# Altium schematic symbol library Transistor_FET.SchLib: 598 symbols (part 2 of 6)
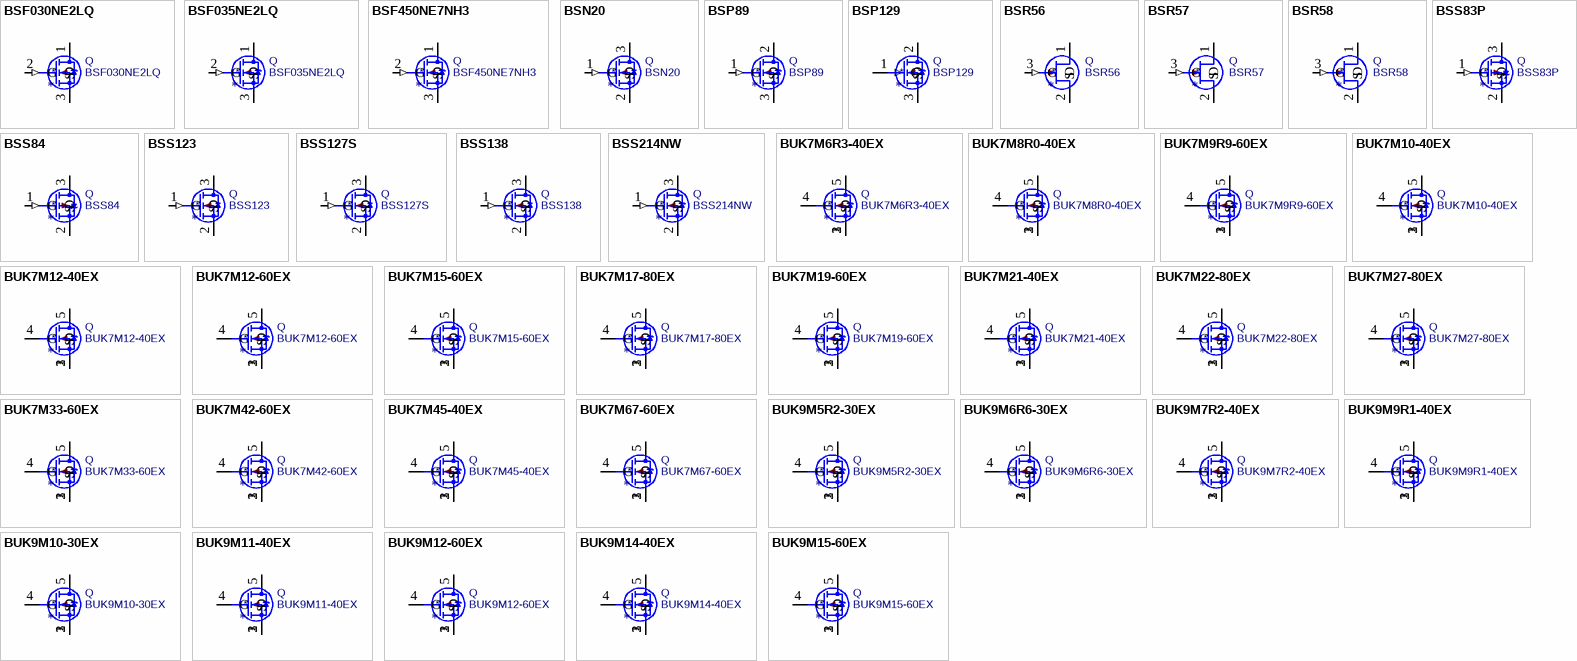
[diagram p17: symbols BSF030NE2LQ to BUK9M15-60EX]

## BUK9M10-30EX
designator *  value BUK9M10-30EX  Reference: Q
54A Id, 30V Vds, N-Channel TrenchMOS MOSFET, 7.8mOhm Ron, 12.2nC Qqd, -55 to 175 °C, LFPAK33; ki_keywords: Power MOSFET N-MOS; ki_fp_filters: LFPAK33*; Footprint: Package_TO_SOT_SMD:LFPAK33; Datasheet: https://assets.nexperia.com/documents/data-sheet/BUK9M10-30E.pdf; Description_: 54A Id, 30V Vds, N-Channel TrenchMOS MOSFET, 7.8mOhm Ron, 12.2nC Qqd, -55 to 175 °C, LFPAK33
pins: 1 S, 2 S, 3 S, 4 G, 5 D

## BUK9M11-40EX
designator *  value BUK9M11-40EX  Reference: Q
53A Id, 40V Vds, N-Channel TrenchMOS MOSFET, 9mOhm Ron, 13.4nC Qqd, -55 to 175 °C, LFPAK33; ki_keywords: Power MOSFET N-MOS; ki_fp_filters: LFPAK33*; Footprint: Package_TO_SOT_SMD:LFPAK33; Datasheet: https://assets.nexperia.com/documents/data-sheet/BUK9M11-40E.pdf; Description_: 53A Id, 40V Vds, N-Channel TrenchMOS MOSFET, 9mOhm Ron, 13.4nC Qqd, -55 to 175 °C, LFPAK33
pins: 1 S, 2 S, 3 S, 4 G, 5 D

## BUK9M12-60EX
designator *  value BUK9M12-60EX  Reference: Q
54A Id, 60V Vds, N-Channel TrenchMOS MOSFET, 11mOhm Ron, - Qqd, -55 to 175 °C, LFPAK33; ki_keywords: Power MOSFET N-MOS; ki_fp_filters: LFPAK33*; Footprint: Package_TO_SOT_SMD:LFPAK33; Datasheet: https://assets.nexperia.com/documents/data-sheet/BUK9M12-60E.pdf; Description_: 54A Id, 60V Vds, N-Channel TrenchMOS MOSFET, 11mOhm Ron, - Qqd, -55 to 175 °C, LFPAK33
pins: 1 S, 2 S, 3 S, 4 G, 5 D

## BUK9M14-40EX
designator *  value BUK9M14-40EX  Reference: Q
44A Id, 40V Vds, N-Channel TrenchMOS MOSFET, 11mOhm Ron, 11.3nC Qqd, -55 to 175 °C, LFPAK33; ki_keywords: Power MOSFET N-MOS; ki_fp_filters: LFPAK33*; Footprint: Package_TO_SOT_SMD:LFPAK33; Datasheet: https://assets.nexperia.com/documents/data-sheet/BUK9M14-40E.pdf; Description_: 44A Id, 40V Vds, N-Channel TrenchMOS MOSFET, 11mOhm Ron, 11.3nC Qqd, -55 to 175 °C, LFPAK33
pins: 1 S, 2 S, 3 S, 4 G, 5 D

## BUK9M15-60EX
designator *  value BUK9M15-60EX  Reference: Q
47A Id, 60V Vds, N-Channel TrenchMOS MOSFET, 13mOhm Ron, 17nC Qqd, -55 to 175 °C, LFPAK33; ki_keywords: Power MOSFET N-MOS; ki_fp_filters: LFPAK33*; Footprint: Package_TO_SOT_SMD:LFPAK33; Datasheet: https://assets.nexperia.com/documents/data-sheet/BUK9M15-60E.pdf; Description_: 47A Id, 60V Vds, N-Channel TrenchMOS MOSFET, 13mOhm Ron, 17nC Qqd, -55 to 175 °C, LFPAK33
pins: 1 S, 2 S, 3 S, 4 G, 5 D

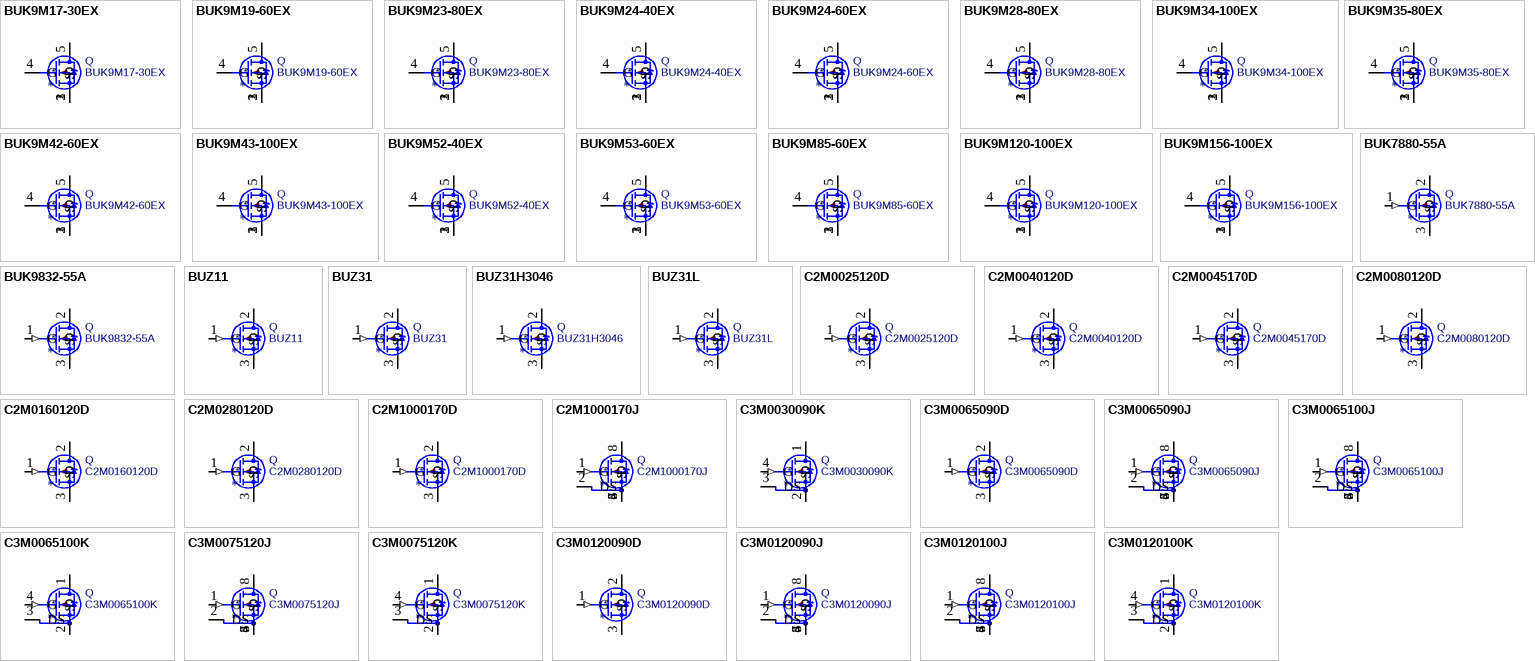
[diagram p3: symbols BUK9M17-30EX to C3M0120100K]

## BUK9M17-30EX
designator *  value BUK9M17-30EX  Reference: Q
37A Id, 30V Vds, N-Channel TrenchMOS MOSFET, 14mOhm Ron, 8nC Qqd, -55 to 175 °C, LFPAK33; ki_keywords: Power MOSFET N-MOS; ki_fp_filters: LFPAK33*; Footprint: Package_TO_SOT_SMD:LFPAK33; Datasheet: https://assets.nexperia.com/documents/data-sheet/BUK9M17-30E.pdf; Description_: 37A Id, 30V Vds, N-Channel TrenchMOS MOSFET, 14mOhm Ron, 8nC Qqd, -55 to 175 °C, LFPAK33
pins: 1 S, 2 S, 3 S, 4 G, 5 D

## BUK9M19-60EX
designator *  value BUK9M19-60EX  Reference: Q
38A Id, 60V Vds, N-Channel TrenchMOS MOSFET, 17mOhm Ron, 13.8nC Qqd, -55 to 175 °C, LFPAK33; ki_keywords: Power MOSFET N-MOS; ki_fp_filters: LFPAK33*; Footprint: Package_TO_SOT_SMD:LFPAK33; Datasheet: https://assets.nexperia.com/documents/data-sheet/BUK9M19-60E.pdf; Description_: 38A Id, 60V Vds, N-Channel TrenchMOS MOSFET, 17mOhm Ron, 13.8nC Qqd, -55 to 175 °C, LFPAK33
pins: 1 S, 2 S, 3 S, 4 G, 5 D

## BUK9M23-80EX
designator *  value BUK9M23-80EX  Reference: Q
37A Id, 80V Vds, N-Channel TrenchMOS MOSFET, 20mOhm Ron, 20nC Qqd, -55 to 175 °C, LFPAK33; ki_keywords: Power MOSFET N-MOS; ki_fp_filters: LFPAK33*; Footprint: Package_TO_SOT_SMD:LFPAK33; Datasheet: https://assets.nexperia.com/documents/data-sheet/BUK9M23-80E.pdf; Description_: 37A Id, 80V Vds, N-Channel TrenchMOS MOSFET, 20mOhm Ron, 20nC Qqd, -55 to 175 °C, LFPAK33
pins: 1 S, 2 S, 3 S, 4 G, 5 D

## BUK9M24-40EX
designator *  value BUK9M24-40EX  Reference: Q
30A Id, 40V Vds, N-Channel TrenchMOS MOSFET, 20mOhm Ron, 7.7nC Qqd, -55 to 175 °C, LFPAK33; ki_keywords: Power MOSFET N-MOS; ki_fp_filters: LFPAK33*; Footprint: Package_TO_SOT_SMD:LFPAK33; Datasheet: https://assets.nexperia.com/documents/data-sheet/BUK9M24-40E.pdf; Description_: 30A Id, 40V Vds, N-Channel TrenchMOS MOSFET, 20mOhm Ron, 7.7nC Qqd, -55 to 175 °C, LFPAK33
pins: 1 S, 2 S, 3 S, 4 G, 5 D

## BUK9M24-60EX
designator *  value BUK9M24-60EX  Reference: Q
32A Id, 60V Vds, N-Channel TrenchMOS MOSFET, 21mOhm Ron, 12.4nC Qqd, -55 to 175 °C, LFPAK33; ki_keywords: Power MOSFET N-MOS; ki_fp_filters: LFPAK33*; Footprint: Package_TO_SOT_SMD:LFPAK33; Datasheet: https://assets.nexperia.com/documents/data-sheet/BUK9M24-60E.pdf; Description_: 32A Id, 60V Vds, N-Channel TrenchMOS MOSFET, 21mOhm Ron, 12.4nC Qqd, -55 to 175 °C, LFPAK33
pins: 1 S, 2 S, 3 S, 4 G, 5 D

## BUK9M28-80EX
designator *  value BUK9M28-80EX  Reference: Q
33A Id, 80V Vds, N-Channel TrenchMOS MOSFET, 25mOhm Ron, 16.7nC Qqd, -55 to 175 °C, LFPAK33; ki_keywords: Power MOSFET N-MOS; ki_fp_filters: LFPAK33*; Footprint: Package_TO_SOT_SMD:LFPAK33; Datasheet: https://assets.nexperia.com/documents/data-sheet/BUK9M28-80E.pdf; Description_: 33A Id, 80V Vds, N-Channel TrenchMOS MOSFET, 25mOhm Ron, 16.7nC Qqd, -55 to 175 °C, LFPAK33
pins: 1 S, 2 S, 3 S, 4 G, 5 D

## BUK9M34-100EX
designator *  value BUK9M34-100EX  Reference: Q
29A Id, 100V Vds, N-Channel TrenchMOS MOSFET, 34mOhm Ron, 24.7nC Qqd, -55 to 175 °C, LFPAK33; ki_keywords: Power MOSFET N-MOS; ki_fp_filters: LFPAK33*; Footprint: Package_TO_SOT_SMD:LFPAK33; Datasheet: https://assets.nexperia.com/documents/data-sheet/BUK9M34-100E.pdf; Description_: 29A Id, 100V Vds, N-Channel TrenchMOS MOSFET, 34mOhm Ron, 24.7nC Qqd, -55 to 175 °C, LFPAK33
pins: 1 S, 2 S, 3 S, 4 G, 5 D

## BUK9M35-80EX
designator *  value BUK9M35-80EX  Reference: Q
26A Id, 80V Vds, N-Channel TrenchMOS MOSFET, 31mOhm Ron, 13.5nC Qqd, -55 to 175 °C, LFPAK33; ki_keywords: Power MOSFET N-MOS; ki_fp_filters: LFPAK33*; Footprint: Package_TO_SOT_SMD:LFPAK33; Datasheet: https://assets.nexperia.com/documents/data-sheet/BUK9M35-80E.pdf; Description_: 26A Id, 80V Vds, N-Channel TrenchMOS MOSFET, 31mOhm Ron, 13.5nC Qqd, -55 to 175 °C, LFPAK33
pins: 1 S, 2 S, 3 S, 4 G, 5 D

## BUK9M42-60EX
designator *  value BUK9M42-60EX  Reference: Q
22A Id, 60V Vds, N-Channel TrenchMOS MOSFET, 37mOhm Ron, 8.3nC Qqd, -55 to 175 °C, LFPAK33; ki_keywords: Power MOSFET N-MOS; ki_fp_filters: LFPAK33*; Footprint: Package_TO_SOT_SMD:LFPAK33; Datasheet: https://assets.nexperia.com/documents/data-sheet/BUK9M42-60E.pdf; Description_: 22A Id, 60V Vds, N-Channel TrenchMOS MOSFET, 37mOhm Ron, 8.3nC Qqd, -55 to 175 °C, LFPAK33
pins: 1 S, 2 S, 3 S, 4 G, 5 D

## BUK9M43-100EX
designator *  value BUK9M43-100EX  Reference: Q
25A Id, 100V Vds, N-Channel TrenchMOS MOSFET, 43mOhm Ron, 20.2nC Qqd, -55 to 175 °C, LFPAK33; ki_keywords: Power MOSFET N-MOS; ki_fp_filters: LFPAK33*; Footprint: Package_TO_SOT_SMD:LFPAK33; Datasheet: https://assets.nexperia.com/documents/data-sheet/BUK9M43-100E.pdf; Description_: 25A Id, 100V Vds, N-Channel TrenchMOS MOSFET, 43mOhm Ron, 20.2nC Qqd, -55 to 175 °C, LFPAK33
pins: 1 S, 2 S, 3 S, 4 G, 5 D

## BUK9M52-40EX
designator *  value BUK9M52-40EX  Reference: Q
17.6A Id, 40V Vds, N-Channel TrenchMOS MOSFET, 40mOhm Ron, 4.5nC Qqd, -55 to 175 °C, LFPAK33; ki_keywords: Power MOSFET N-MOS; ki_fp_filters: LFPAK33*; Footprint: Package_TO_SOT_SMD:LFPAK33; Datasheet: https://assets.nexperia.com/documents/data-sheet/BUK9M52-40E.pdf; Description_: 17.6A Id, 40V Vds, N-Channel TrenchMOS MOSFET, 40mOhm Ron, 4.5nC Qqd, -55 to 175 °C, LFPAK33
pins: 1 S, 2 S, 3 S, 4 G, 5 D

## BUK9M53-60EX
designator *  value BUK9M53-60EX  Reference: Q
17A Id, 60V Vds, N-Channel TrenchMOS MOSFET, 46mOhm Ron, 6nC Qqd, -55 to 175 °C, LFPAK33; ki_keywords: Power MOSFET N-MOS; ki_fp_filters: LFPAK33*; Footprint: Package_TO_SOT_SMD:LFPAK33; Datasheet: https://assets.nexperia.com/documents/data-sheet/BUK9M53-60E.pdf; Description_: 17A Id, 60V Vds, N-Channel TrenchMOS MOSFET, 46mOhm Ron, 6nC Qqd, -55 to 175 °C, LFPAK33
pins: 1 S, 2 S, 3 S, 4 G, 5 D

## BUK9M85-60EX
designator *  value BUK9M85-60EX  Reference: Q
12.8A Id, 60V Vds, N-Channel TrenchMOS MOSFET, 73mOhm Ron, 4.4nC Qqd, -55 to 175 °C, LFPAK33; ki_keywords: Power MOSFET N-MOS; ki_fp_filters: LFPAK33*; Footprint: Package_TO_SOT_SMD:LFPAK33; Datasheet: https://assets.nexperia.com/documents/data-sheet/BUK9M85-60E.pdf; Description_: 12.8A Id, 60V Vds, N-Channel TrenchMOS MOSFET, 73mOhm Ron, 4.4nC Qqd, -55 to 175 °C, LFPAK33
pins: 1 S, 2 S, 3 S, 4 G, 5 D

## BUK9M120-100EX
designator *  value BUK9M120-100EX  Reference: Q
11.5A Id, 100V Vds, N-Channel TrenchMOS MOSFET, 119mOhm Ron, 8.8nC Qqd, -55 to 175 °C, LFPAK33; ki_keywords: Power MOSFET N-MOS; ki_fp_filters: LFPAK33*; Footprint: Package_TO_SOT_SMD:LFPAK33; Datasheet: https://assets.nexperia.com/documents/data-sheet/BUK9M120-100E.pdf; Description_: 11.5A Id, 100V Vds, N-Channel TrenchMOS MOSFET, 119mOhm Ron, 8.8nC Qqd, -55 to 175 °C, LFPAK33
pins: 1 S, 2 S, 3 S, 4 G, 5 D

## BUK9M156-100EX
designator *  value BUK9M156-100EX  Reference: Q
9.3A Id, 100V Vds, N-Channel TrenchMOS MOSFET, 150mOhm Ron, 7.4nC Qqd, -55 to 175 °C, LFPAK33; ki_keywords: Power MOSFET N-MOS; ki_fp_filters: LFPAK33*; Footprint: Package_TO_SOT_SMD:LFPAK33; Datasheet: https://assets.nexperia.com/documents/data-sheet/BUK9M156-100E.pdf; Description_: 9.3A Id, 100V Vds, N-Channel TrenchMOS MOSFET, 150mOhm Ron, 7.4nC Qqd, -55 to 175 °C, LFPAK33
pins: 1 S, 2 S, 3 S, 4 G, 5 D

## BUK7880-55A
designator *  value BUK7880-55A  Reference: Q
7A Id, 55V Vds, N-Channel Enhancement Mode MOSFET, SOT-223; ki_keywords: n-channel n channel mosfet enhancement mode; ki_fp_filters: SOT?223*; Footprint: Package_TO_SOT_SMD:SOT-223-3_TabPin2; Datasheet: https://assets.nexperia.com/documents/data-sheet/BUK7880-55A.pdf; Description_: 7A Id, 55V Vds, N-Channel Enhancement Mode MOSFET, SOT-223
pins: 1 G (in), 2 D, 3 S

## BUK9832-55A
designator *  value BUK9832-55A  Reference: Q
12A Id, 55V Vds, RdsOn 25mOhm, N-Channel Enhancement Mode MOSFET, SOT-223; ki_keywords: n-channel n channel mosfet enhancement mode; ki_fp_filters: SOT?223*; Footprint: Package_TO_SOT_SMD:SOT-223-3_TabPin2; Datasheet: https://assets.nexperia.com/documents/data-sheet/BUK9832-55A.pdf; Description_: 12A Id, 55V Vds, RdsOn 25mOhm, N-Channel Enhancement Mode MOSFET, SOT-223
pins: 1 G (in), 2 D, 3 S

## BUZ11
designator *  value BUZ11  Reference: Q
30A Id, 50V Vds, N-Channel Power MOSFET, TO-220; ki_fp_filters: TO?220*; Footprint: Package_TO_SOT_THT:TO-220-3_Vertical; Datasheet: https://media.digikey.com/pdf/Data%20Sheets/Fairchild%20PDFs/BUZ11.pdf; Description_: 30A Id, 50V Vds, N-Channel Power MOSFET, TO-220; ki_keywords: N-Channel Power MOSFET
pins: 1 G (in), 2 D, 3 S

## BUZ31
designator *  value BUZ31  Reference: Q
14.5A Id, 200V Vds, SIPMOS Power Transistor, N-Channel MOSFET, 0.2 ohms Rds, normal level (Vgs(th) = 2.1 .. 3.0 .. 4.0V), TO-220; ki_keywords: Obsolete avalanche-rated Infineon-BUZ31H-halogen-free Siemens-C67078-S.1304-A2; ki_fp_filters: TO?220*; Footprint: Package_TO_SOT_THT:TO-220-3_Vertical; Datasheet: https://www.mouser.com/ds/2/196/Buz31%20H_%20Rev%202.5-57290.pdf; Description_: 14.5A Id, 200V Vds, SIPMOS Power Transistor, N-Channel MOSFET, 0.2 ohms Rds, normal level (Vgs(th) = 2.1 .. 3.0 .. 4.0V), TO-220
pins: 1 G (in), 2 D, 3 S

## BUZ31H3046
designator *  value BUZ31H3046  Reference: Q
14.5A Id, 200V Vds, SIPMOS Power Transistor, N-Channel MOSFET, 0.2 ohms Rds, normal level (Vgs(th) = 2.1 .. 3.0 .. 4.0V), TO-262; ki_keywords: Obsolete Infineon avalanche-rated halogen-free; ki_fp_filters: TO?262*; Footprint: Package_TO_SOT_THT:TO-262-3_Vertical; Datasheet: https://www.infineon.com/dgdl/Infineon-BUZ31H3046-DS-v02_00-en.pdf?fileId=db3a30433b47825b013b852143eb396e; Description_: 14.5A Id, 200V Vds, SIPMOS Power Transistor, N-Channel MOSFET, 0.2 ohms Rds, normal level (Vgs(th) = 2.1 .. 3.0 .. 4.0V), TO-262
pins: 1 G (in), 2 D, 3 S

## BUZ31L
designator *  value BUZ31L  Reference: Q
13.5A Id, 200V Vds, SIPMOS Power Transistor, N-Channel MOSFET, 0.2 ohms Rds, logic level (Vgs(th) = 1.2 .. 1.6 .. 2.0V), TO-220; ki_keywords: Obsolete avalanche-rated Infineon-BUZ31LH-halogen-free Siemens-C67078-S1322-A2; ki_fp_filters: TO?220*; Footprint: Package_TO_SOT_THT:TO-220-3_Vertical; Datasheet: https://www.mouser.com/datasheet/2/196/Infineon-BUZ31LH-DS-v02_04-en-522762.pdf; Description_: 13.5A Id, 200V Vds, SIPMOS Power Transistor, N-Channel MOSFET, 0.2 ohms Rds, logic level (Vgs(th) = 1.2 .. 1.6 .. 2.0V), TO-220
pins: 1 G (in), 2 D, 3 S

## C2M0025120D
designator *  value C2M0025120D  Reference: Q
90A Id, 1200V Vds, 25mOhm, N-Channel SiC MOSFET, TO-247; ki_fp_filters: TO?247*; Footprint: Package_TO_SOT_THT:TO-247-3_Vertical; Datasheet: https://www.wolfspeed.com/media/downloads/161/C2M0025120D.pdf; Description_: 90A Id, 1200V Vds, 25mOhm, N-Channel SiC MOSFET, TO-247; ki_keywords: N-Channel SiC MOSFET
pins: 1 G (in), 2 D, 3 S

## C2M0040120D
designator *  value C2M0040120D  Reference: Q
60A Id, 1200V Vds, 40mOhm, N-Channel SiC MOSFET, TO-247; ki_fp_filters: TO?247*; Footprint: Package_TO_SOT_THT:TO-247-3_Vertical; Datasheet: https://www.wolfspeed.com/media/downloads/165/C2M0040120D.pdf; Description_: 60A Id, 1200V Vds, 40mOhm, N-Channel SiC MOSFET, TO-247; ki_keywords: N-Channel SiC MOSFET
pins: 1 G (in), 2 D, 3 S

## C2M0045170D
designator *  value C2M0045170D  Reference: Q
72A Id, 1700V Vds, 45mOhm, N-Channel SiC MOSFET, TO-247; ki_fp_filters: TO?247*; Footprint: Package_TO_SOT_THT:TO-247-3_Vertical; Datasheet: https://www.wolfspeed.com/media/downloads/960/C2M0045170D.000.pdf; Description_: 72A Id, 1700V Vds, 45mOhm, N-Channel SiC MOSFET, TO-247; ki_keywords: N-Channel SiC MOSFET
pins: 1 G (in), 2 D, 3 S

## C2M0080120D
designator *  value C2M0080120D  Reference: Q
36A Id, 1200V Vds, 80mOhm, N-Channel SiC MOSFET, TO-247; ki_fp_filters: TO?247*; Footprint: Package_TO_SOT_THT:TO-247-3_Vertical; Datasheet: https://www.wolfspeed.com/media/downloads/167/C2M0080120D.pdf; Description_: 36A Id, 1200V Vds, 80mOhm, N-Channel SiC MOSFET, TO-247; ki_keywords: N-Channel SiC MOSFET
pins: 1 G (in), 2 D, 3 S

## C2M0160120D
designator *  value C2M0160120D  Reference: Q
19A Id, 1200V Vds, 160mOhm, N-Channel SiC MOSFET, TO-247; ki_fp_filters: TO?247*; Footprint: Package_TO_SOT_THT:TO-247-3_Vertical; Datasheet: https://www.wolfspeed.com/media/downloads/169/C2M0160120D.pdf; Description_: 19A Id, 1200V Vds, 160mOhm, N-Channel SiC MOSFET, TO-247; ki_keywords: N-Channel SiC MOSFET
pins: 1 G (in), 2 D, 3 S

## C2M0280120D
designator *  value C2M0280120D  Reference: Q
10A Id, 1200V Vds, 280mOhm, N-Channel SiC MOSFET, TO-247; ki_fp_filters: TO?247*; Footprint: Package_TO_SOT_THT:TO-247-3_Vertical; Datasheet: https://www.wolfspeed.com/media/downloads/171/C2M0280120D.pdf; Description_: 10A Id, 1200V Vds, 280mOhm, N-Channel SiC MOSFET, TO-247; ki_keywords: N-Channel SiC MOSFET
pins: 1 G (in), 2 D, 3 S

## C2M1000170D
designator *  value C2M1000170D  Reference: Q
5A Id, 1700V Vds, 1000mOhm, N-Channel SiC MOSFET, TO-247; ki_fp_filters: TO?247*; Footprint: Package_TO_SOT_THT:TO-247-3_Vertical; Datasheet: https://www.wolfspeed.com/media/downloads/173/C2M1000170D.pdf; Description_: 5A Id, 1700V Vds, 1000mOhm, N-Channel SiC MOSFET, TO-247; ki_keywords: N-Channel SiC MOSFET
pins: 1 G (in), 2 D, 3 S

## C2M1000170J
designator *  value C2M1000170J  Reference: Q
5.3A Id, 1700V Vds, 1000mOhm, N-Channel SiC MOSFET, TO-263-7; ki_fp_filters: TO?263*TabPin8*; Footprint: Package_TO_SOT_SMD:TO-263-7_TabPin8; Datasheet: https://www.wolfspeed.com/media/downloads/820/C2M1000170J.pdf; Description_: 5.3A Id, 1700V Vds, 1000mOhm, N-Channel SiC MOSFET, TO-263-7; ki_keywords: N-Channel SiC MOSFET
pins: 1 G (in), 2 DS, 3 S, 4 S, 5 S, 6 S, 7 S, 8 D

## C3M0030090K
designator *  value C3M0030090K  Reference: Q
63A Id, 900V Vds, 30mOhm, N-Channel SiC MOSFET, TO-247-4; ki_fp_filters: TO?247*; Footprint: Package_TO_SOT_THT:TO-247-4_Vertical; Datasheet: https://www.wolfspeed.com/media/downloads/1185/C3M0030090K.pdf; Description_: 63A Id, 900V Vds, 30mOhm, N-Channel SiC MOSFET, TO-247-4; ki_keywords: N-Channel SiC MOSFET
pins: 1 D, 2 S, 3 DS, 4 G (in)

## C3M0065090D
designator *  value C3M0065090D  Reference: Q
36A Id, 900V Vds, 65mOhm, N-Channel SiC MOSFET, TO-247; ki_fp_filters: TO?247*; Footprint: Package_TO_SOT_THT:TO-247-3_Vertical; Datasheet: https://www.wolfspeed.com/media/downloads/176/C3M0065090D.pdf; Description_: 36A Id, 900V Vds, 65mOhm, N-Channel SiC MOSFET, TO-247; ki_keywords: N-Channel SiC MOSFET
pins: 1 G (in), 2 D, 3 S

## C3M0065090J
designator *  value C3M0065090J  Reference: Q
35A Id, 900V Vds, 65mOhm, N-Channel SiC MOSFET, TO-263-7; ki_fp_filters: TO?263*TabPin8*; Footprint: Package_TO_SOT_SMD:TO-263-7_TabPin8; Datasheet: https://www.wolfspeed.com/media/downloads/145/C3M0065090J.pdf; Description_: 35A Id, 900V Vds, 65mOhm, N-Channel SiC MOSFET, TO-263-7; ki_keywords: N-Channel SiC MOSFET
pins: 1 G (in), 2 DS, 3 S, 4 S, 5 S, 6 S, 7 S, 8 D

## C3M0065100J
designator *  value C3M0065100J  Reference: Q
35A Id, 1000V Vds, 65mOhm, N-Channel SiC MOSFET, TO-263-7; ki_fp_filters: TO?263*TabPin8*; Footprint: Package_TO_SOT_SMD:TO-263-7_TabPin8; Datasheet: https://www.wolfspeed.com/media/downloads/958/C3M0065100J.pdf; Description_: 35A Id, 1000V Vds, 65mOhm, N-Channel SiC MOSFET, TO-263-7; ki_keywords: N-Channel SiC MOSFET
pins: 1 G (in), 2 DS, 3 S, 4 S, 5 S, 6 S, 7 S, 8 D

## C3M0065100K
designator *  value C3M0065100K  Reference: Q
35A Id, 1000V Vds, 65mOhm, N-Channel SiC MOSFET, TO-247-4; ki_fp_filters: TO?247*; Footprint: Package_TO_SOT_THT:TO-247-4_Vertical; Datasheet: https://www.wolfspeed.com/media/downloads/961/C3M0065100K.pdf; Description_: 35A Id, 1000V Vds, 65mOhm, N-Channel SiC MOSFET, TO-247-4; ki_keywords: N-Channel SiC MOSFET
pins: 1 D, 2 S, 3 DS, 4 G (in)

## C3M0075120J
designator *  value C3M0075120J  Reference: Q
30A Id, 1200V Vds, 75mOhm, N-Channel SiC MOSFET, TO-263-7; ki_fp_filters: TO?263*TabPin8*; Footprint: Package_TO_SOT_SMD:TO-263-7_TabPin8; Datasheet: https://www.wolfspeed.com/media/downloads/997/C3M0075120J.pdf; Description_: 30A Id, 1200V Vds, 75mOhm, N-Channel SiC MOSFET, TO-263-7; ki_keywords: N-Channel SiC MOSFET
pins: 1 G (in), 2 DS, 3 S, 4 S, 5 S, 6 S, 7 S, 8 D

## C3M0075120K
designator *  value C3M0075120K  Reference: Q
30A Id, 1200V Vds, 75mOhm, N-Channel SiC MOSFET, TO-247-4; ki_fp_filters: TO?247*; Footprint: Package_TO_SOT_THT:TO-247-4_Vertical; Datasheet: https://www.wolfspeed.com/media/downloads/959/c3m0075120k.pdf; Description_: 30A Id, 1200V Vds, 75mOhm, N-Channel SiC MOSFET, TO-247-4; ki_keywords: N-Channel SiC MOSFET
pins: 1 D, 2 S, 3 DS, 4 G (in)

## C3M0120090D
designator *  value C3M0120090D  Reference: Q
23A Id, 900V Vds, 120mOhm, N-Channel SiC MOSFET, TO-247; ki_fp_filters: TO?247*; Footprint: Package_TO_SOT_THT:TO-247-3_Vertical; Datasheet: https://www.wolfspeed.com/media/downloads/824/C3M0120090D.pdf; Description_: 23A Id, 900V Vds, 120mOhm, N-Channel SiC MOSFET, TO-247; ki_keywords: N-Channel SiC MOSFET
pins: 1 G (in), 2 D, 3 S

## C3M0120090J
designator *  value C3M0120090J  Reference: Q
22A Id, 900V Vds, 120mOhm, N-Channel SiC MOSFET, TO-263-7; ki_fp_filters: TO?263*TabPin8*; Footprint: Package_TO_SOT_SMD:TO-263-7_TabPin8; Datasheet: https://www.wolfspeed.com/media/downloads/834/C3M0120090J.pdf; Description_: 22A Id, 900V Vds, 120mOhm, N-Channel SiC MOSFET, TO-263-7; ki_keywords: N-Channel SiC MOSFET
pins: 1 G (in), 2 DS, 3 S, 4 S, 5 S, 6 S, 7 S, 8 D

## C3M0120100J
designator *  value C3M0120100J  Reference: Q
22A Id, 1000V Vds, 120mOhm, N-Channel SiC MOSFET, TO-263-7; ki_fp_filters: TO?263*TabPin8*; Footprint: Package_TO_SOT_SMD:TO-263-7_TabPin8; Datasheet: https://www.wolfspeed.com/media/downloads/957/C3M0120100J.pdf; Description_: 22A Id, 1000V Vds, 120mOhm, N-Channel SiC MOSFET, TO-263-7; ki_keywords: N-Channel SiC MOSFET
pins: 1 G (in), 2 DS, 3 S, 4 S, 5 S, 6 S, 7 S, 8 D

## C3M0120100K
designator *  value C3M0120100K  Reference: Q
22A Id, 1000V Vds, 120mOhm, N-Channel SiC MOSFET, TO-247-4; ki_fp_filters: TO?247*; Footprint: Package_TO_SOT_THT:TO-247-4_Vertical; Datasheet: https://www.wolfspeed.com/media/downloads/962/C3M0120100K.pdf; Description_: 22A Id, 1000V Vds, 120mOhm, N-Channel SiC MOSFET, TO-247-4; ki_keywords: N-Channel SiC MOSFET
pins: 1 D, 2 S, 3 DS, 4 G (in)

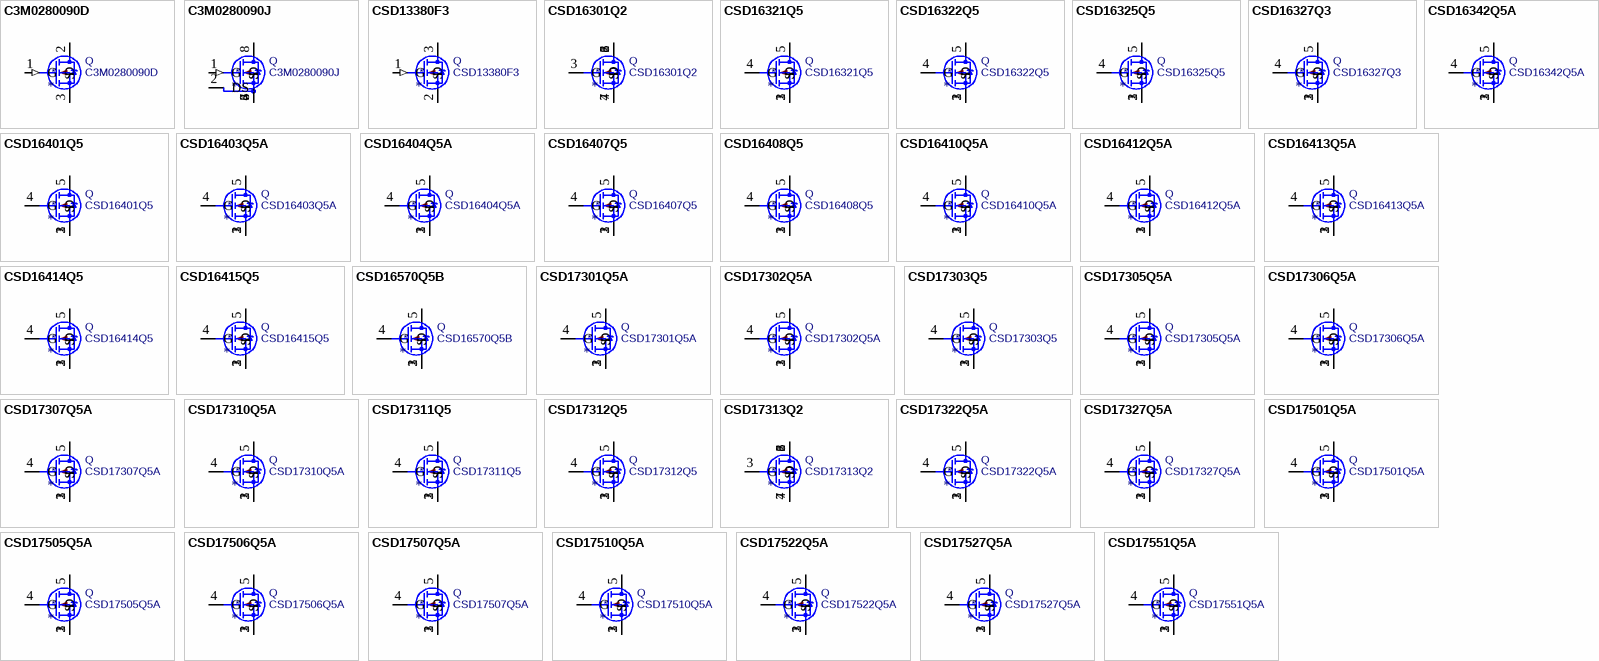
[diagram p4: symbols C3M0280090D to CSD17551Q5A]

## C3M0280090D
designator *  value C3M0280090D  Reference: Q
11.5A Id, 900V Vds, 280mOhm, N-Channel SiC MOSFET, TO-247; ki_fp_filters: TO?247*; Footprint: Package_TO_SOT_THT:TO-247-3_Vertical; Datasheet: https://www.wolfspeed.com/media/downloads/825/C3M0280090D.pdf; Description_: 11.5A Id, 900V Vds, 280mOhm, N-Channel SiC MOSFET, TO-247; ki_keywords: N-Channel SiC MOSFET
pins: 1 G (in), 2 D, 3 S

## C3M0280090J
designator *  value C3M0280090J  Reference: Q
11.5A Id, 900V Vds, 280mOhm, N-Channel SiC MOSFET, TO-263-7; ki_fp_filters: TO?263*TabPin8*; Footprint: Package_TO_SOT_SMD:TO-263-7_TabPin8; Datasheet: https://www.wolfspeed.com/media/downloads/835/C3M0280090J.pdf; Description_: 11.5A Id, 900V Vds, 280mOhm, N-Channel SiC MOSFET, TO-263-7; ki_keywords: N-Channel SiC MOSFET
pins: 1 G (in), 2 DS, 3 S, 4 S, 5 S, 6 S, 7 S, 8 D

## CSD13380F3
designator *  value CSD13380F3  Reference: Q
3.6A Id, 12V Vds, N-Channel MOSFET, 76mOhm Ron,max @ 4.5Vgs, 0.91nC Qg,typ @ 4.5Vgs, PicoStar 0.73x0.64mm max, 0.69x0.60mm nom; ki_keywords: Texas NMOS single; ki_fp_filters: *PicoStar*DFN?3*; Footprint: Package_DFN_QFN:Texas_PicoStar_DFN-3_0.69x0.60mm; Datasheet: https://www.ti.com/lit/ds/symlink/csd13380f3.pdf; Description_: 3.6A Id, 12V Vds, N-Channel MOSFET, 76mOhm Ron,max @ 4.5Vgs, 0.91nC Qg,typ @ 4.5Vgs, PicoStar 0.73x0.64mm max, 0.69x0.60mm nom
pins: 1 G (in), 2 S, 3 D

## CSD16301Q2
designator *  value CSD16301Q2  Reference: Q
5A Id, 25V Vds, NexFET N-Channel Power MOSFET, 19mOhm Ron, SON-6; ki_keywords: NexFET Power MOSFET N-MOS; ki_fp_filters: Texas*DQK*; Footprint: Package_SON:Texas_DQK; Datasheet: http://www.ti.com/lit/ds/symlink/csd16301q2.pdf; Description_: 5A Id, 25V Vds, NexFET N-Channel Power MOSFET, 19mOhm Ron, SON-6
pins: 1 D, 2 D, 3 G, 4 S, 5 D, 6 D, 7 S, 8 D

## CSD16321Q5
designator *  value CSD16321Q5  Reference: Q
100A Id, 25V Vds, NexFET N-Channel Power MOSFET, 2.6mOhm Ron, 14nC Qg(typ), SON8 5x6mm; ki_keywords: NexFET Power MOSFET N-MOS; ki_fp_filters: TDSON*; Footprint: Package_TO_SOT_SMD:TDSON-8-1; Datasheet: http://www.ti.com/lit/gpn/csd16321q5; Description_: 100A Id, 25V Vds, NexFET N-Channel Power MOSFET, 2.6mOhm Ron, 14nC Qg(typ), SON8 5x6mm
pins: 1 S, 2 S, 3 S, 4 G, 5 D

## CSD16322Q5
designator *  value CSD16322Q5  Reference: Q
100A Id, 25V Vds, NexFET N-Channel Power MOSFET, 5.8mOhm Ron, Qg (typ) 6.8nC, SON8 5x6mm; ki_keywords: NexFET Power MOSFET N-MOS; ki_fp_filters: TDSON*; Footprint: Package_TO_SOT_SMD:TDSON-8-1; Datasheet: http://www.ti.com/lit/gpn/csd16322q5; Description_: 100A Id, 25V Vds, NexFET N-Channel Power MOSFET, 5.8mOhm Ron, Qg (typ) 6.8nC, SON8 5x6mm
pins: 1 S, 2 S, 3 S, 4 G, 5 D

## CSD16325Q5
designator *  value CSD16325Q5  Reference: Q
100A Id, 25V Vds, NexFET N-Channel Power MOSFET, 2.2mOhm Ron, 18nC Qg(typ), SON8 5x6mm; ki_keywords: NexFET Power MOSFET N-MOS; ki_fp_filters: TDSON*; Footprint: Package_TO_SOT_SMD:TDSON-8-1; Datasheet: http://www.ti.com/lit/gpn/csd16325q5; Description_: 100A Id, 25V Vds, NexFET N-Channel Power MOSFET, 2.2mOhm Ron, 18nC Qg(typ), SON8 5x6mm
pins: 1 S, 2 S, 3 S, 4 G, 5 D

## CSD16327Q3
designator *  value CSD16327Q3  Reference: Q
60A Id, 25V Vds, NexFET N-Channel Power MOSFET, 3.4mOhm Ron, Qg Typ 6.2nC, VSON-8 3.3x3.3mm; ki_keywords: NexFET Power MOSFET N-MOS; ki_fp_filters: VSON*3.3x3.3mm*P0.65mm*NexFET*; Footprint: Package_SON:VSON-8_3.3x3.3mm_P0.65mm_NexFET; Datasheet: https://www.ti.com/lit/ds/symlink/csd16327q3.pdf; Description_: 60A Id, 25V Vds, NexFET N-Channel Power MOSFET, 3.4mOhm Ron, Qg Typ 6.2nC, VSON-8 3.3x3.3mm
pins: 1 S, 2 S, 3 S, 4 G, 5 D

## CSD16342Q5A
designator *  value CSD16342Q5A  Reference: Q
100A Id, 25V Vds, NexFET N-Channel Power MOSFET, 5.5mOhm Ron, Qg (typ) 6.5nC, SON8 5x6mm; ki_keywords: NexFET Power MOSFET N-MOS; ki_fp_filters: TDSON*; Footprint: Package_TO_SOT_SMD:TDSON-8-1; Datasheet: http://www.ti.com/lit/gpn/csd16342q5a; Description_: 100A Id, 25V Vds, NexFET N-Channel Power MOSFET, 5.5mOhm Ron, Qg (typ) 6.5nC, SON8 5x6mm
pins: 1 S, 2 S, 3 S, 4 G, 5 D

## CSD16401Q5
designator *  value CSD16401Q5  Reference: Q
100A Id, 25V Vds, NexFET N-Channel Power MOSFET, 1.6mOhm Ron, 21nC Qg(typ), SON8 5x6mm; ki_keywords: NexFET Power MOSFET N-MOS; ki_fp_filters: TDSON*; Footprint: Package_TO_SOT_SMD:TDSON-8-1; Datasheet: http://www.ti.com/lit/gpn/csd16401q5; Description_: 100A Id, 25V Vds, NexFET N-Channel Power MOSFET, 1.6mOhm Ron, 21nC Qg(typ), SON8 5x6mm
pins: 1 S, 2 S, 3 S, 4 G, 5 D

## CSD16403Q5A
designator *  value CSD16403Q5A  Reference: Q
100A Id, 25V Vds, NexFET N-Channel Power MOSFET, 2.8mOhm Ron, Qg (typ) 13.3nC, SON8 5x6mm; ki_keywords: NexFET Power MOSFET N-MOS; ki_fp_filters: TDSON*; Footprint: Package_TO_SOT_SMD:TDSON-8-1; Datasheet: http://www.ti.com/lit/gpn/csd16403q5a; Description_: 100A Id, 25V Vds, NexFET N-Channel Power MOSFET, 2.8mOhm Ron, Qg (typ) 13.3nC, SON8 5x6mm
pins: 1 S, 2 S, 3 S, 4 G, 5 D

## CSD16404Q5A
designator *  value CSD16404Q5A  Reference: Q
100A Id, 25V Vds, NexFET N-Channel Power MOSFET, 5.1mOhm Ron, Qg (typ) 6.5nC, SON8 5x6mm; ki_keywords: NexFET Power MOSFET N-MOS; ki_fp_filters: TDSON*; Footprint: Package_TO_SOT_SMD:TDSON-8-1; Datasheet: http://www.ti.com/lit/gpn/csd16404q5a; Description_: 100A Id, 25V Vds, NexFET N-Channel Power MOSFET, 5.1mOhm Ron, Qg (typ) 6.5nC, SON8 5x6mm
pins: 1 S, 2 S, 3 S, 4 G, 5 D

## CSD16407Q5
designator *  value CSD16407Q5  Reference: Q
100A Id, 25V Vds, NexFET N-Channel Power MOSFET, 2.4mOhm Ron, Qg (typ) 13.3nC, SON8 5x6mm; ki_keywords: NexFET Power MOSFET N-MOS; ki_fp_filters: TDSON*; Footprint: Package_TO_SOT_SMD:TDSON-8-1; Datasheet: http://www.ti.com/lit/gpn/csd16407q5; Description_: 100A Id, 25V Vds, NexFET N-Channel Power MOSFET, 2.4mOhm Ron, Qg (typ) 13.3nC, SON8 5x6mm
pins: 1 S, 2 S, 3 S, 4 G, 5 D

## CSD16408Q5
designator *  value CSD16408Q5  Reference: Q
100A Id, 25V Vds, NexFET N-Channel Power MOSFET, 4.5mOhm Ron, Qg (typ) 6.7nC, SON8 5x6mm; ki_keywords: NexFET Power MOSFET N-MOS; ki_fp_filters: TDSON*; Footprint: Package_TO_SOT_SMD:TDSON-8-1; Datasheet: http://www.ti.com/lit/gpn/csd16408q5; Description_: 100A Id, 25V Vds, NexFET N-Channel Power MOSFET, 4.5mOhm Ron, Qg (typ) 6.7nC, SON8 5x6mm
pins: 1 S, 2 S, 3 S, 4 G, 5 D

## CSD16410Q5A
designator *  value CSD16410Q5A  Reference: Q
100A Id, 25V Vds, NexFET N-Channel Power MOSFET, 8.5mOhm Ron, Qg (typ) 3.9nC, SON8 5x6mm; ki_keywords: NexFET Power MOSFET N-MOS; ki_fp_filters: TDSON*; Footprint: Package_TO_SOT_SMD:TDSON-8-1; Datasheet: http://www.ti.com/lit/gpn/csd16410q5a; Description_: 100A Id, 25V Vds, NexFET N-Channel Power MOSFET, 8.5mOhm Ron, Qg (typ) 3.9nC, SON8 5x6mm
pins: 1 S, 2 S, 3 S, 4 G, 5 D

## CSD16412Q5A
designator *  value CSD16412Q5A  Reference: Q
100A Id, 25V Vds, NexFET N-Channel Power MOSFET, 11mOhm Ron, Qg (typ) 2.9nC, SON8 5x6mm; ki_keywords: NexFET Power MOSFET N-MOS; ki_fp_filters: TDSON*; Footprint: Package_TO_SOT_SMD:TDSON-8-1; Datasheet: http://www.ti.com/lit/gpn/csd16412q5a; Description_: 100A Id, 25V Vds, NexFET N-Channel Power MOSFET, 11mOhm Ron, Qg (typ) 2.9nC, SON8 5x6mm
pins: 1 S, 2 S, 3 S, 4 G, 5 D

## CSD16413Q5A
designator *  value CSD16413Q5A  Reference: Q
100A Id, 25V Vds, NexFET N-Channel Power MOSFET, 3.9mOhm Ron, 9nC Qg(typ), SON8 5x6mm; ki_keywords: NexFET Power MOSFET N-MOS; ki_fp_filters: TDSON*; Footprint: Package_TO_SOT_SMD:TDSON-8-1; Datasheet: http://www.ti.com/lit/gpn/csd16413q5a; Description_: 100A Id, 25V Vds, NexFET N-Channel Power MOSFET, 3.9mOhm Ron, 9nC Qg(typ), SON8 5x6mm
pins: 1 S, 2 S, 3 S, 4 G, 5 D

## CSD16414Q5
designator *  value CSD16414Q5  Reference: Q
100A Id, 25V Vds, NexFET N-Channel Power MOSFET, 1.9mOhm Ron, Qg (typ) 16.6nC, SON8 5x6mm; ki_keywords: NexFET Power MOSFET N-MOS; ki_fp_filters: TDSON*; Footprint: Package_TO_SOT_SMD:TDSON-8-1; Datasheet: http://www.ti.com/lit/gpn/csd16414q5; Description_: 100A Id, 25V Vds, NexFET N-Channel Power MOSFET, 1.9mOhm Ron, Qg (typ) 16.6nC, SON8 5x6mm
pins: 1 S, 2 S, 3 S, 4 G, 5 D

## CSD16415Q5
designator *  value CSD16415Q5  Reference: Q
100A Id, 25V Vds, NexFET N-Channel Power MOSFET, 1.15mOhm Ron, 21nC Qg(typ), SON8 5x6mm; ki_keywords: NexFET Power MOSFET N-MOS; ki_fp_filters: TDSON*; Footprint: Package_TO_SOT_SMD:TDSON-8-1; Datasheet: http://www.ti.com/lit/gpn/csd16415q5; Description_: 100A Id, 25V Vds, NexFET N-Channel Power MOSFET, 1.15mOhm Ron, 21nC Qg(typ), SON8 5x6mm
pins: 1 S, 2 S, 3 S, 4 G, 5 D

## CSD16570Q5B
designator *  value CSD16570Q5B  Reference: Q
100A Id, 25V Vds, NexFET N-Channel Power MOSFET, 0.59mOhm Ron, 95nC Qg(typ), SON8 5x6mm; ki_keywords: NexFET Power MOSFET N-MOS; ki_fp_filters: TDSON*; Footprint: Package_TO_SOT_SMD:TDSON-8-1; Datasheet: http://www.ti.com/lit/gpn/csd16570q5b; Description_: 100A Id, 25V Vds, NexFET N-Channel Power MOSFET, 0.59mOhm Ron, 95nC Qg(typ), SON8 5x6mm
pins: 1 S, 2 S, 3 S, 4 G, 5 D

## CSD17301Q5A
designator *  value CSD17301Q5A  Reference: Q
100A Id, 30V Vds, NexFET N-Channel Power MOSFET, 3mOhm Ron, 19nC Qg(typ), SON8 5x6mm; ki_keywords: NexFET Power MOSFET N-MOS; ki_fp_filters: TDSON*; Footprint: Package_TO_SOT_SMD:TDSON-8-1; Datasheet: http://www.ti.com/lit/gpn/csd17301q5a; Description_: 100A Id, 30V Vds, NexFET N-Channel Power MOSFET, 3mOhm Ron, 19nC Qg(typ), SON8 5x6mm
pins: 1 S, 2 S, 3 S, 4 G, 5 D

## CSD17302Q5A
designator *  value CSD17302Q5A  Reference: Q
100A Id, 30V Vds, NexFET N-Channel Power MOSFET, 9mOhm Ron, Qg (typ) 5.4nC, SON8 5x6mm; ki_keywords: NexFET Power MOSFET N-MOS; ki_fp_filters: TDSON*; Footprint: Package_TO_SOT_SMD:TDSON-8-1; Datasheet: http://www.ti.com/lit/gpn/csd17302q5a; Description_: 100A Id, 30V Vds, NexFET N-Channel Power MOSFET, 9mOhm Ron, Qg (typ) 5.4nC, SON8 5x6mm
pins: 1 S, 2 S, 3 S, 4 G, 5 D

## CSD17303Q5
designator *  value CSD17303Q5  Reference: Q
100A Id, 30V Vds, NexFET N-Channel Power MOSFET, 2.6mOhm Ron, 18nC Qg(typ), SON8 5x6mm; ki_keywords: NexFET Power MOSFET N-MOS; ki_fp_filters: TDSON*; Footprint: Package_TO_SOT_SMD:TDSON-8-1; Datasheet: http://www.ti.com/lit/gpn/csd17303q5; Description_: 100A Id, 30V Vds, NexFET N-Channel Power MOSFET, 2.6mOhm Ron, 18nC Qg(typ), SON8 5x6mm
pins: 1 S, 2 S, 3 S, 4 G, 5 D

## CSD17305Q5A
designator *  value CSD17305Q5A  Reference: Q
100A Id, 30V Vds, NexFET N-Channel Power MOSFET, 2.8mOhm Ron, Qg (typ) 14.1nC, SON8 5x6mm; ki_keywords: NexFET Power MOSFET N-MOS; ki_fp_filters: TDSON*; Footprint: Package_TO_SOT_SMD:TDSON-8-1; Datasheet: http://www.ti.com/lit/gpn/csd17305q5a; Description_: 100A Id, 30V Vds, NexFET N-Channel Power MOSFET, 2.8mOhm Ron, Qg (typ) 14.1nC, SON8 5x6mm
pins: 1 S, 2 S, 3 S, 4 G, 5 D

## CSD17306Q5A
designator *  value CSD17306Q5A  Reference: Q
100A Id, 30V Vds, NexFET N-Channel Power MOSFET, 4.2mOhm Ron, Qg (typ) 11.8nC, SON8 5x6mm; ki_keywords: NexFET Power MOSFET N-MOS; ki_fp_filters: TDSON*; Footprint: Package_TO_SOT_SMD:TDSON-8-1; Datasheet: http://www.ti.com/lit/gpn/csd17306q5a; Description_: 100A Id, 30V Vds, NexFET N-Channel Power MOSFET, 4.2mOhm Ron, Qg (typ) 11.8nC, SON8 5x6mm
pins: 1 S, 2 S, 3 S, 4 G, 5 D

## CSD17307Q5A
designator *  value CSD17307Q5A  Reference: Q
100A Id, 30V Vds, NexFET N-Channel Power MOSFET, 12.1mOhm Ron, 4nC Qg(typ), SON8 5x6mm; ki_keywords: NexFET Power MOSFET N-MOS; ki_fp_filters: TDSON*; Footprint: Package_TO_SOT_SMD:TDSON-8-1; Datasheet: http://www.ti.com/lit/gpn/csd17307q5a; Description_: 100A Id, 30V Vds, NexFET N-Channel Power MOSFET, 12.1mOhm Ron, 4nC Qg(typ), SON8 5x6mm
pins: 1 S, 2 S, 3 S, 4 G, 5 D

## CSD17310Q5A
designator *  value CSD17310Q5A  Reference: Q
100A Id, 30V Vds, NexFET N-Channel Power MOSFET, 5.9mOhm Ron, Qg (typ) 8.9nC, SON8 5x6mm; ki_keywords: NexFET Power MOSFET N-MOS; ki_fp_filters: TDSON*; Footprint: Package_TO_SOT_SMD:TDSON-8-1; Datasheet: http://www.ti.com/lit/gpn/csd17310q5a; Description_: 100A Id, 30V Vds, NexFET N-Channel Power MOSFET, 5.9mOhm Ron, Qg (typ) 8.9nC, SON8 5x6mm
pins: 1 S, 2 S, 3 S, 4 G, 5 D

## CSD17311Q5
designator *  value CSD17311Q5  Reference: Q
100A Id, 30V Vds, NexFET N-Channel Power MOSFET, 2.3mOhm Ron, 24nC Qg(typ), SON8 5x6mm; ki_keywords: NexFET Power MOSFET N-MOS; ki_fp_filters: TDSON*; Footprint: Package_TO_SOT_SMD:TDSON-8-1; Datasheet: http://www.ti.com/lit/gpn/csd17311q5; Description_: 100A Id, 30V Vds, NexFET N-Channel Power MOSFET, 2.3mOhm Ron, 24nC Qg(typ), SON8 5x6mm
pins: 1 S, 2 S, 3 S, 4 G, 5 D

## CSD17312Q5
designator *  value CSD17312Q5  Reference: Q
100A Id, 30V Vds, NexFET N-Channel Power MOSFET, 1.7mOhm Ron, 28nC Qg(typ), SON8 5x6mm; ki_keywords: NexFET Power MOSFET N-MOS; ki_fp_filters: TDSON*; Footprint: Package_TO_SOT_SMD:TDSON-8-1; Datasheet: http://www.ti.com/lit/gpn/csd17312q5; Description_: 100A Id, 30V Vds, NexFET N-Channel Power MOSFET, 1.7mOhm Ron, 28nC Qg(typ), SON8 5x6mm
pins: 1 S, 2 S, 3 S, 4 G, 5 D

## CSD17313Q2
designator *  value CSD17313Q2  Reference: Q
5A Id, 30V Vds, NexFET N-Channel Power MOSFET, 24mOhm Ron, SON-6; ki_keywords: NexFET Power MOSFET N-MOS; ki_fp_filters: Texas*DQK*; Footprint: Package_SON:Texas_DQK; Datasheet: http://www.ti.com/lit/ds/symlink/csd17313q2.pdf; Description_: 5A Id, 30V Vds, NexFET N-Channel Power MOSFET, 24mOhm Ron, SON-6
pins: 1 D, 2 D, 3 G, 4 S, 5 D, 6 D, 7 S, 8 D

## CSD17322Q5A
designator *  value CSD17322Q5A  Reference: Q
100A Id, 30V Vds, NexFET N-Channel Power MOSFET, 12.4mOhm Ron, Qg (typ) 3.6nC, SON8 5x6mm; ki_keywords: NexFET Power MOSFET N-MOS; ki_fp_filters: TDSON*; Footprint: Package_TO_SOT_SMD:TDSON-8-1; Datasheet: http://www.ti.com/lit/gpn/csd17322q5a; Description_: 100A Id, 30V Vds, NexFET N-Channel Power MOSFET, 12.4mOhm Ron, Qg (typ) 3.6nC, SON8 5x6mm
pins: 1 S, 2 S, 3 S, 4 G, 5 D

## CSD17327Q5A
designator *  value CSD17327Q5A  Reference: Q
100A Id, 30V Vds, NexFET N-Channel Power MOSFET, 15.5mOhm Ron, Qg (typ) 2.8nC, SON8 5x6mm; ki_keywords: NexFET Power MOSFET N-MOS; ki_fp_filters: TDSON*; Footprint: Package_TO_SOT_SMD:TDSON-8-1; Datasheet: http://www.ti.com/lit/gpn/csd17327q5a; Description_: 100A Id, 30V Vds, NexFET N-Channel Power MOSFET, 15.5mOhm Ron, Qg (typ) 2.8nC, SON8 5x6mm
pins: 1 S, 2 S, 3 S, 4 G, 5 D

## CSD17501Q5A
designator *  value CSD17501Q5A  Reference: Q
100A Id, 30V Vds, NexFET N-Channel Power MOSFET, 2.9mOhm Ron, Qg (typ) 13.2nC, SON8 5x6mm; ki_keywords: NexFET Power MOSFET N-MOS; ki_fp_filters: TDSON*; Footprint: Package_TO_SOT_SMD:TDSON-8-1; Datasheet: http://www.ti.com/lit/gpn/csd17501q5a; Description_: 100A Id, 30V Vds, NexFET N-Channel Power MOSFET, 2.9mOhm Ron, Qg (typ) 13.2nC, SON8 5x6mm
pins: 1 S, 2 S, 3 S, 4 G, 5 D

## CSD17505Q5A
designator *  value CSD17505Q5A  Reference: Q
100A Id, 30V Vds, NexFET N-Channel Power MOSFET, 3.5mOhm Ron, 10nC Qg(typ), SON8 5x6mm; ki_keywords: NexFET Power MOSFET N-MOS; ki_fp_filters: TDSON*; Footprint: Package_TO_SOT_SMD:TDSON-8-1; Datasheet: http://www.ti.com/lit/gpn/csd17505q5a; Description_: 100A Id, 30V Vds, NexFET N-Channel Power MOSFET, 3.5mOhm Ron, 10nC Qg(typ), SON8 5x6mm
pins: 1 S, 2 S, 3 S, 4 G, 5 D

## CSD17506Q5A
designator *  value CSD17506Q5A  Reference: Q
100A Id, 30V Vds, NexFET N-Channel Power MOSFET, 4mOhm Ron, Qg (typ) 8.3nC, SON8 5x6mm; ki_keywords: NexFET Power MOSFET N-MOS; ki_fp_filters: TDSON*; Footprint: Package_TO_SOT_SMD:TDSON-8-1; Datasheet: http://www.ti.com/lit/gpn/csd17506q5a; Description_: 100A Id, 30V Vds, NexFET N-Channel Power MOSFET, 4mOhm Ron, Qg (typ) 8.3nC, SON8 5x6mm
pins: 1 S, 2 S, 3 S, 4 G, 5 D

## CSD17507Q5A
designator *  value CSD17507Q5A  Reference: Q
100A Id, 30V Vds, NexFET N-Channel Power MOSFET, 10.8mOhm Ron, Qg (typ) 2.8nC, SON8 5x6mm; ki_keywords: NexFET Power MOSFET N-MOS; ki_fp_filters: TDSON*; Footprint: Package_TO_SOT_SMD:TDSON-8-1; Datasheet: http://www.ti.com/lit/gpn/csd17507q5a; Description_: 100A Id, 30V Vds, NexFET N-Channel Power MOSFET, 10.8mOhm Ron, Qg (typ) 2.8nC, SON8 5x6mm
pins: 1 S, 2 S, 3 S, 4 G, 5 D

## CSD17510Q5A
designator *  value CSD17510Q5A  Reference: Q
100A Id, 30V Vds, NexFET N-Channel Power MOSFET, 5.2mOhm Ron, Qg (typ) 6.4nC, SON8 5x6mm; ki_keywords: NexFET Power MOSFET N-MOS; ki_fp_filters: TDSON*; Footprint: Package_TO_SOT_SMD:TDSON-8-1; Datasheet: http://www.ti.com/lit/gpn/csd17510q5a; Description_: 100A Id, 30V Vds, NexFET N-Channel Power MOSFET, 5.2mOhm Ron, Qg (typ) 6.4nC, SON8 5x6mm
pins: 1 S, 2 S, 3 S, 4 G, 5 D

## CSD17522Q5A
designator *  value CSD17522Q5A  Reference: Q
100A Id, 30V Vds, NexFET N-Channel Power MOSFET, 8.1mOhm Ron, Qg (typ) 3.6nC, SON8 5x6mm; ki_keywords: NexFET Power MOSFET N-MOS; ki_fp_filters: TDSON*; Footprint: Package_TO_SOT_SMD:TDSON-8-1; Datasheet: http://www.ti.com/lit/gpn/csd17522q5a; Description_: 100A Id, 30V Vds, NexFET N-Channel Power MOSFET, 8.1mOhm Ron, Qg (typ) 3.6nC, SON8 5x6mm
pins: 1 S, 2 S, 3 S, 4 G, 5 D

## CSD17527Q5A
designator *  value CSD17527Q5A  Reference: Q
100A Id, 30V Vds, NexFET N-Channel Power MOSFET, 10.8mOhm Ron, Qg (typ) 2.8nC, SON8 5x6mm; ki_keywords: NexFET Power MOSFET N-MOS; ki_fp_filters: TDSON*; Footprint: Package_TO_SOT_SMD:TDSON-8-1; Datasheet: http://www.ti.com/lit/gpn/csd17527q5a; Description_: 100A Id, 30V Vds, NexFET N-Channel Power MOSFET, 10.8mOhm Ron, Qg (typ) 2.8nC, SON8 5x6mm
pins: 1 S, 2 S, 3 S, 4 G, 5 D

## CSD17551Q5A
designator *  value CSD17551Q5A  Reference: Q
48A Id, 30V Vds, NexFET N-Channel Power MOSFET, 8.8mOhm Ron, 6nC Qg(typ), SON8 5x6mm; ki_keywords: NexFET Power MOSFET N-MOS; ki_fp_filters: TDSON*; Footprint: Package_TO_SOT_SMD:TDSON-8-1; Datasheet: http://www.ti.com/lit/gpn/csd17551q5a; Description_: 48A Id, 30V Vds, NexFET N-Channel Power MOSFET, 8.8mOhm Ron, 6nC Qg(typ), SON8 5x6mm
pins: 1 S, 2 S, 3 S, 4 G, 5 D

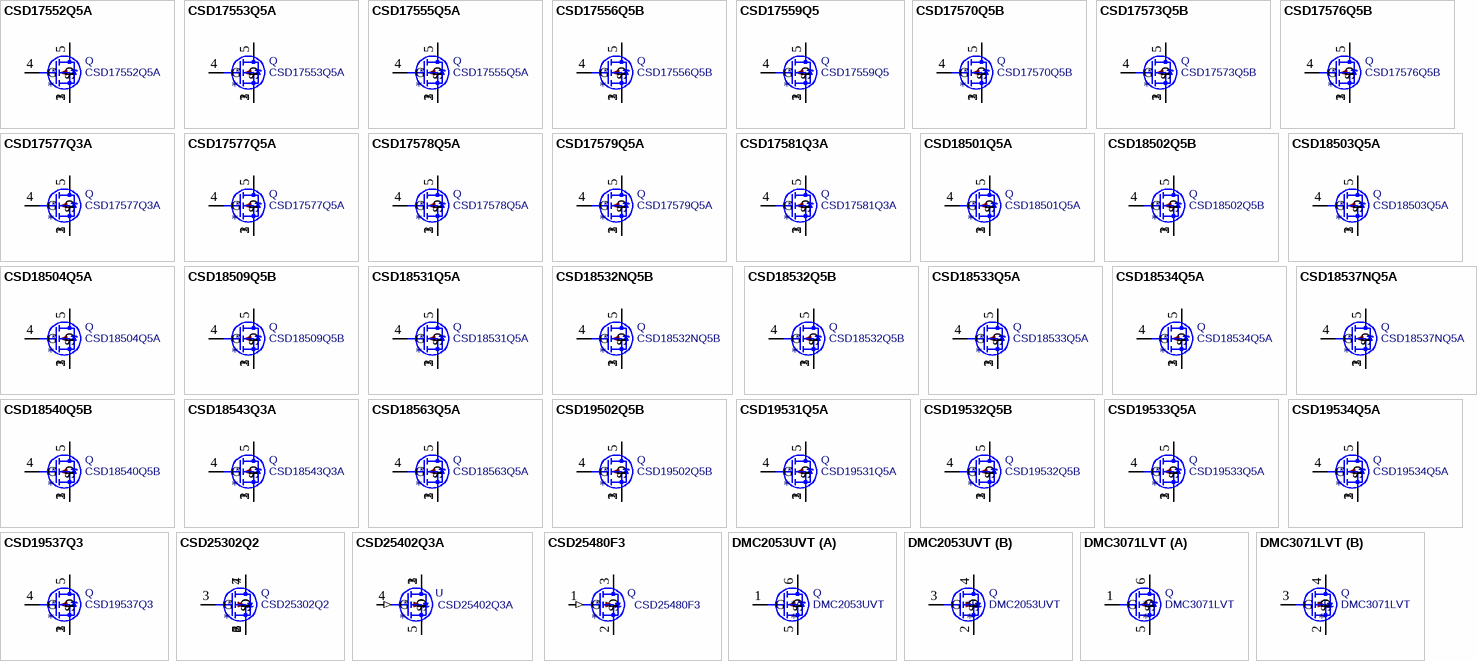
[diagram p5: symbols CSD17552Q5A to DMC3071LVT]

## CSD17552Q5A
designator *  value CSD17552Q5A  Reference: Q
60A Id, 30V Vds, NexFET N-Channel Power MOSFET, 6.2mOhm Ron, 9nC Qg(typ), SON8 5x6mm; ki_keywords: NexFET Power MOSFET N-MOS; ki_fp_filters: TDSON*; Footprint: Package_TO_SOT_SMD:TDSON-8-1; Datasheet: http://www.ti.com/lit/gpn/csd17552q5a; Description_: 60A Id, 30V Vds, NexFET N-Channel Power MOSFET, 6.2mOhm Ron, 9nC Qg(typ), SON8 5x6mm
pins: 1 S, 2 S, 3 S, 4 G, 5 D

## CSD17553Q5A
designator *  value CSD17553Q5A  Reference: Q
100A Id, 30V Vds, NexFET N-Channel Power MOSFET, 3.1mOhm Ron, Qg (typ) 17.5nC, SON8 5x6mm; ki_keywords: NexFET Power MOSFET N-MOS; ki_fp_filters: TDSON*; Footprint: Package_TO_SOT_SMD:TDSON-8-1; Datasheet: http://www.ti.com/lit/gpn/csd17553q5a; Description_: 100A Id, 30V Vds, NexFET N-Channel Power MOSFET, 3.1mOhm Ron, Qg (typ) 17.5nC, SON8 5x6mm
pins: 1 S, 2 S, 3 S, 4 G, 5 D

## CSD17555Q5A
designator *  value CSD17555Q5A  Reference: Q
100A Id, 30V Vds, NexFET N-Channel Power MOSFET, 2.7mOhm Ron, 23nC Qg(typ), SON8 5x6mm; ki_keywords: NexFET Power MOSFET N-MOS; ki_fp_filters: TDSON*; Footprint: Package_TO_SOT_SMD:TDSON-8-1; Datasheet: http://www.ti.com/lit/gpn/csd17555q5a; Description_: 100A Id, 30V Vds, NexFET N-Channel Power MOSFET, 2.7mOhm Ron, 23nC Qg(typ), SON8 5x6mm
pins: 1 S, 2 S, 3 S, 4 G, 5 D

## CSD17556Q5B
designator *  value CSD17556Q5B  Reference: Q
100A Id, 30V Vds, NexFET N-Channel Power MOSFET, 1.4mOhm Ron, Qg (typ) 28.5nC, SON8 5x6mm; ki_keywords: NexFET Power MOSFET N-MOS; ki_fp_filters: TDSON*; Footprint: Package_TO_SOT_SMD:TDSON-8-1; Datasheet: http://www.ti.com/lit/gpn/csd17556q5b; Description_: 100A Id, 30V Vds, NexFET N-Channel Power MOSFET, 1.4mOhm Ron, Qg (typ) 28.5nC, SON8 5x6mm
pins: 1 S, 2 S, 3 S, 4 G, 5 D

## CSD17559Q5
designator *  value CSD17559Q5  Reference: Q
100A Id, 30V Vds, NexFET N-Channel Power MOSFET, 1.15mOhm Ron, 39nC Qg(typ), SON8 5x6mm; ki_keywords: NexFET Power MOSFET N-MOS; ki_fp_filters: TDSON*; Footprint: Package_TO_SOT_SMD:TDSON-8-1; Datasheet: http://www.ti.com/lit/gpn/csd17559q5; Description_: 100A Id, 30V Vds, NexFET N-Channel Power MOSFET, 1.15mOhm Ron, 39nC Qg(typ), SON8 5x6mm
pins: 1 S, 2 S, 3 S, 4 G, 5 D

## CSD17570Q5B
designator *  value CSD17570Q5B  Reference: Q
100A Id, 30V Vds, NexFET N-Channel Power MOSFET, 0.69mOhm Ron, 93nC Qg(typ), SON8 5x6mm; ki_keywords: NexFET Power MOSFET N-MOS; ki_fp_filters: TDSON*; Footprint: Package_TO_SOT_SMD:TDSON-8-1; Datasheet: http://www.ti.com/lit/gpn/csd17570q5b; Description_: 100A Id, 30V Vds, NexFET N-Channel Power MOSFET, 0.69mOhm Ron, 93nC Qg(typ), SON8 5x6mm
pins: 1 S, 2 S, 3 S, 4 G, 5 D

## CSD17573Q5B
designator *  value CSD17573Q5B  Reference: Q
100A Id, 30V Vds, NexFET N-Channel Power MOSFET, 1mOhm Ron, 49nC Qg(typ), SON8 5x6mm; ki_keywords: NexFET Power MOSFET N-MOS; ki_fp_filters: TDSON*; Footprint: Package_TO_SOT_SMD:TDSON-8-1; Datasheet: http://www.ti.com/lit/gpn/csd17573q5b; Description_: 100A Id, 30V Vds, NexFET N-Channel Power MOSFET, 1mOhm Ron, 49nC Qg(typ), SON8 5x6mm
pins: 1 S, 2 S, 3 S, 4 G, 5 D

## CSD17576Q5B
designator *  value CSD17576Q5B  Reference: Q
100A Id, 30V Vds, NexFET N-Channel Power MOSFET, 2mOhm Ron, 25nC Qg(typ), SON8 5x6mm; ki_keywords: NexFET Power MOSFET N-MOS; ki_fp_filters: TDSON*; Footprint: Package_TO_SOT_SMD:TDSON-8-1; Datasheet: http://www.ti.com/lit/gpn/csd17576q5b; Description_: 100A Id, 30V Vds, NexFET N-Channel Power MOSFET, 2mOhm Ron, 25nC Qg(typ), SON8 5x6mm
pins: 1 S, 2 S, 3 S, 4 G, 5 D

## CSD17577Q3A
designator *  value CSD17577Q3A  Reference: Q
35A Id, 30V Vds, NexFET N-Channel Power MOSFET, 4.0mOhm Ron, Qg Typ 12nC, VSON-8 3.3x3.3mm; ki_keywords: NexFET Power MOSFET N-MOS; ki_fp_filters: VSON*3.3x3.3mm*P0.65mm*NexFET*; Footprint: Package_SON:VSON-8_3.3x3.3mm_P0.65mm_NexFET; Datasheet: https://www.ti.com/lit/ds/symlink/csd17577q3a.pdf; Description_: 35A Id, 30V Vds, NexFET N-Channel Power MOSFET, 4.0mOhm Ron, Qg Typ 12nC, VSON-8 3.3x3.3mm
pins: 1 S, 2 S, 3 S, 4 G, 5 D

## CSD17577Q5A
designator *  value CSD17577Q5A  Reference: Q
60A Id, 30V Vds, NexFET N-Channel Power MOSFET, 4.2mOhm Ron, 13nC Qg(typ), SON8 5x6mm; ki_keywords: NexFET Power MOSFET N-MOS; ki_fp_filters: TDSON*; Footprint: Package_TO_SOT_SMD:TDSON-8-1; Datasheet: http://www.ti.com/lit/gpn/csd17577q5a; Description_: 60A Id, 30V Vds, NexFET N-Channel Power MOSFET, 4.2mOhm Ron, 13nC Qg(typ), SON8 5x6mm
pins: 1 S, 2 S, 3 S, 4 G, 5 D

## CSD17578Q5A
designator *  value CSD17578Q5A  Reference: Q
25A Id, 30V Vds, NexFET N-Channel Power MOSFET, 6.9mOhm Ron, Qg (typ) 7.9nC, SON8 5x6mm; ki_keywords: NexFET Power MOSFET N-MOS; ki_fp_filters: TDSON*; Footprint: Package_TO_SOT_SMD:TDSON-8-1; Datasheet: http://www.ti.com/lit/gpn/csd17578q5a; Description_: 25A Id, 30V Vds, NexFET N-Channel Power MOSFET, 6.9mOhm Ron, Qg (typ) 7.9nC, SON8 5x6mm
pins: 1 S, 2 S, 3 S, 4 G, 5 D

## CSD17579Q5A
designator *  value CSD17579Q5A  Reference: Q
25A Id, 30V Vds, NexFET N-Channel Power MOSFET, 9.7mOhm Ron, Qg (typ) 5.4nC, SON8 5x6mm; ki_keywords: NexFET Power MOSFET N-MOS; ki_fp_filters: TDSON*; Footprint: Package_TO_SOT_SMD:TDSON-8-1; Datasheet: http://www.ti.com/lit/gpn/csd17579q5a; Description_: 25A Id, 30V Vds, NexFET N-Channel Power MOSFET, 9.7mOhm Ron, Qg (typ) 5.4nC, SON8 5x6mm
pins: 1 S, 2 S, 3 S, 4 G, 5 D

## CSD17581Q3A
designator *  value CSD17581Q3A  Reference: Q
60A Id, 30V Vds, NexFET N-Channel Power MOSFET, 3.2mOhm Ron, Qg Typ 20nC, VSON-8 3.3x3.3mm; ki_keywords: NexFET Power MOSFET N-MOS; ki_fp_filters: VSON*3.3x3.3mm*P0.65mm*NexFET*; Footprint: Package_SON:VSON-8_3.3x3.3mm_P0.65mm_NexFET; Datasheet: https://www.ti.com/lit/ds/symlink/csd17581q3a.pdf; Description_: 60A Id, 30V Vds, NexFET N-Channel Power MOSFET, 3.2mOhm Ron, Qg Typ 20nC, VSON-8 3.3x3.3mm
pins: 1 S, 2 S, 3 S, 4 G, 5 D

## CSD18501Q5A
designator *  value CSD18501Q5A  Reference: Q
100A Id, 40V Vds, NexFET N-Channel Power MOSFET, 3.2mOhm Ron, 42nC Qg(typ), SON8 5x6mm; ki_keywords: NexFET Power MOSFET N-MOS; ki_fp_filters: TDSON*; Footprint: Package_TO_SOT_SMD:TDSON-8-1; Datasheet: http://www.ti.com/lit/gpn/csd18501q5a; Description_: 100A Id, 40V Vds, NexFET N-Channel Power MOSFET, 3.2mOhm Ron, 42nC Qg(typ), SON8 5x6mm
pins: 1 S, 2 S, 3 S, 4 G, 5 D

## CSD18502Q5B
designator *  value CSD18502Q5B  Reference: Q
100A Id, 40V Vds, NexFET N-Channel Power MOSFET, 2.3mOhm Ron, 52nC Qg(typ), SON8 5x6mm; ki_keywords: NexFET Power MOSFET N-MOS; ki_fp_filters: TDSON*; Footprint: Package_TO_SOT_SMD:TDSON-8-1; Datasheet: http://www.ti.com/lit/gpn/csd18502q5b; Description_: 100A Id, 40V Vds, NexFET N-Channel Power MOSFET, 2.3mOhm Ron, 52nC Qg(typ), SON8 5x6mm
pins: 1 S, 2 S, 3 S, 4 G, 5 D

## CSD18503Q5A
designator *  value CSD18503Q5A  Reference: Q
100A Id, 40V Vds, NexFET N-Channel Power MOSFET, 4.3mOhm Ron, 26nC Qg(typ), SON8 5x6mm; ki_keywords: NexFET Power MOSFET N-MOS; ki_fp_filters: TDSON*; Footprint: Package_TO_SOT_SMD:TDSON-8-1; Datasheet: http://www.ti.com/lit/gpn/csd18503q5a; Description_: 100A Id, 40V Vds, NexFET N-Channel Power MOSFET, 4.3mOhm Ron, 26nC Qg(typ), SON8 5x6mm
pins: 1 S, 2 S, 3 S, 4 G, 5 D

## CSD18504Q5A
designator *  value CSD18504Q5A  Reference: Q
50A Id, 40V Vds, NexFET N-Channel Power MOSFET, 6.6mOhm Ron, 16nC Qg(typ), SON8 5x6mm; ki_keywords: NexFET Power MOSFET N-MOS; ki_fp_filters: TDSON*; Footprint: Package_TO_SOT_SMD:TDSON-8-1; Datasheet: http://www.ti.com/lit/gpn/csd18504q5a; Description_: 50A Id, 40V Vds, NexFET N-Channel Power MOSFET, 6.6mOhm Ron, 16nC Qg(typ), SON8 5x6mm
pins: 1 S, 2 S, 3 S, 4 G, 5 D

## CSD18509Q5B
designator *  value CSD18509Q5B  Reference: Q
100A Id, 40V Vds, NexFET N-Channel Power MOSFET, 1.2mOhm Ron, 150nC Qg(typ), SON8 5x6mm; ki_keywords: NexFET Power MOSFET N-MOS; ki_fp_filters: TDSON*; Footprint: Package_TO_SOT_SMD:TDSON-8-1; Datasheet: http://www.ti.com/lit/gpn/csd18509q5b; Description_: 100A Id, 40V Vds, NexFET N-Channel Power MOSFET, 1.2mOhm Ron, 150nC Qg(typ), SON8 5x6mm
pins: 1 S, 2 S, 3 S, 4 G, 5 D

## CSD18531Q5A
designator *  value CSD18531Q5A  Reference: Q
100A Id, 60V Vds, NexFET N-Channel Power MOSFET, 4.6mOhm Ron, 36nC Qg(typ), SON8 5x6mm; ki_keywords: NexFET Power MOSFET N-MOS; ki_fp_filters: TDSON*; Footprint: Package_TO_SOT_SMD:TDSON-8-1; Datasheet: http://www.ti.com/lit/gpn/csd18531q5a; Description_: 100A Id, 60V Vds, NexFET N-Channel Power MOSFET, 4.6mOhm Ron, 36nC Qg(typ), SON8 5x6mm
pins: 1 S, 2 S, 3 S, 4 G, 5 D

## CSD18532NQ5B
designator *  value CSD18532NQ5B  Reference: Q
100A Id, 60V Vds, NexFET N-Channel Power MOSFET, 3.4mOhm Ron, 49nC Qg(typ), SON8 5x6mm; ki_keywords: NexFET Power MOSFET N-MOS; ki_fp_filters: TDSON*; Footprint: Package_TO_SOT_SMD:TDSON-8-1; Datasheet: http://www.ti.com/lit/gpn/csd18532nq5b; Description_: 100A Id, 60V Vds, NexFET N-Channel Power MOSFET, 3.4mOhm Ron, 49nC Qg(typ), SON8 5x6mm
pins: 1 S, 2 S, 3 S, 4 G, 5 D

## CSD18532Q5B
designator *  value CSD18532Q5B  Reference: Q
100A Id, 60V Vds, NexFET N-Channel Power MOSFET, 3.2mOhm Ron, 44nC Qg(typ), SON8 5x6mm; ki_keywords: NexFET Power MOSFET N-MOS; ki_fp_filters: TDSON*; Footprint: Package_TO_SOT_SMD:TDSON-8-1; Datasheet: http://www.ti.com/lit/gpn/csd18532q5b; Description_: 100A Id, 60V Vds, NexFET N-Channel Power MOSFET, 3.2mOhm Ron, 44nC Qg(typ), SON8 5x6mm
pins: 1 S, 2 S, 3 S, 4 G, 5 D

## CSD18533Q5A
designator *  value CSD18533Q5A  Reference: Q
100A Id, 60V Vds, NexFET N-Channel Power MOSFET, 5.9mOhm Ron, 29nC Qg(typ), SON8 5x6mm; ki_keywords: NexFET Power MOSFET N-MOS; ki_fp_filters: TDSON*; Footprint: Package_TO_SOT_SMD:TDSON-8-1; Datasheet: http://www.ti.com/lit/gpn/csd18533q5a; Description_: 100A Id, 60V Vds, NexFET N-Channel Power MOSFET, 5.9mOhm Ron, 29nC Qg(typ), SON8 5x6mm
pins: 1 S, 2 S, 3 S, 4 G, 5 D

## CSD18534Q5A
designator *  value CSD18534Q5A  Reference: Q
50A Id, 60V Vds, NexFET N-Channel Power MOSFET, 9.8mOhm Ron, 17nC Qg(typ), SON8 5x6mm; ki_keywords: NexFET Power MOSFET N-MOS; ki_fp_filters: TDSON*; Footprint: Package_TO_SOT_SMD:TDSON-8-1; Datasheet: http://www.ti.com/lit/gpn/csd18534q5a; Description_: 50A Id, 60V Vds, NexFET N-Channel Power MOSFET, 9.8mOhm Ron, 17nC Qg(typ), SON8 5x6mm
pins: 1 S, 2 S, 3 S, 4 G, 5 D

## CSD18537NQ5A
designator *  value CSD18537NQ5A  Reference: Q
50A Id, 60V Vds, NexFET N-Channel Power MOSFET, 13mOhm Ron, 14nC Qg(typ), SON8 5x6mm; ki_keywords: NexFET Power MOSFET N-MOS; ki_fp_filters: TDSON*; Footprint: Package_TO_SOT_SMD:TDSON-8-1; Datasheet: http://www.ti.com/lit/gpn/csd18537nq5a; Description_: 50A Id, 60V Vds, NexFET N-Channel Power MOSFET, 13mOhm Ron, 14nC Qg(typ), SON8 5x6mm
pins: 1 S, 2 S, 3 S, 4 G, 5 D

## CSD18540Q5B
designator *  value CSD18540Q5B  Reference: Q
100A Id, 60V Vds, NexFET N-Channel Power MOSFET, 2.2mOhm Ron, 41nC Qg(typ), SON8 5x6mm; ki_keywords: NexFET Power MOSFET N-MOS; ki_fp_filters: TDSON*; Footprint: Package_TO_SOT_SMD:TDSON-8-1; Datasheet: http://www.ti.com/lit/gpn/csd18540q5b; Description_: 100A Id, 60V Vds, NexFET N-Channel Power MOSFET, 2.2mOhm Ron, 41nC Qg(typ), SON8 5x6mm
pins: 1 S, 2 S, 3 S, 4 G, 5 D

## CSD18543Q3A
designator *  value CSD18543Q3A  Reference: Q
35A Id, 60V Vds, NexFET N-Channel Power MOSFET, 8.1mOhm Ron, Qg Typ 11.1nC, VSON-8 3.3x3.3mm; ki_keywords: NexFET Power MOSFET N-MOS; ki_fp_filters: VSON*3.3x3.3mm*P0.65mm*NexFET*; Footprint: Package_SON:VSON-8_3.3x3.3mm_P0.65mm_NexFET; Datasheet: https://www.ti.com/lit/ds/symlink/csd18543q3a.pdf; Description_: 35A Id, 60V Vds, NexFET N-Channel Power MOSFET, 8.1mOhm Ron, Qg Typ 11.1nC, VSON-8 3.3x3.3mm
pins: 1 S, 2 S, 3 S, 4 G, 5 D

## CSD18563Q5A
designator *  value CSD18563Q5A  Reference: Q
100A Id, 60V Vds, NexFET N-Channel Power MOSFET, 6.8mOhm Ron, 15nC Qg(typ), SON8 5x6mm; ki_keywords: NexFET Power MOSFET N-MOS; ki_fp_filters: TDSON*; Footprint: Package_TO_SOT_SMD:TDSON-8-1; Datasheet: http://www.ti.com/lit/gpn/csd18563q5a; Description_: 100A Id, 60V Vds, NexFET N-Channel Power MOSFET, 6.8mOhm Ron, 15nC Qg(typ), SON8 5x6mm
pins: 1 S, 2 S, 3 S, 4 G, 5 D